# Altium schematic symbol library MolexMiniFitJr_4_POS_RA_TH.SchLib: 1 symbol
Pins are listed as number, name and electrical type; pins without a type are passive.

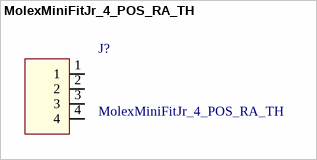
[diagram p0: symbol MolexMiniFitJr_4_POS_RA_TH]

## MolexMiniFitJr_4_POS_RA_TH
designator J?
CONN HEADER R/A 4POS 4.2MM / Manufacturer PN: 0039303045; Manufacturer_Name: Molex; Geometry.Height: 5mm; Manufacturer_Part_Number: 0039303045; RS Part Number: *; RS Price/Stock: *; Arrow Part Number: 0039303045; Arrow Price/Stock: https://www.arrow.com/en/products/0039303045/molex; Datasheet Link: https://www.molex.com/webdocs/datasheets/pdf/en-us/0039303045_PCB_HEADERS.pdf
footprint 0039303045
pins: 1, 2, 3, 4